# EAGLE library part 677006144621 (library InputOutputIO (rev18a))
WR-COM Vertical Receptacle IEEE 1394 / Fire Wire, 6 pins=>Code : Con_I-O_COM_IEEE_677006144621 <http://katalog.we-online.de/media/images/eican/Con_I-O_COM_IEEE_677006144621_pf2.jpg> Details see: http://katalog.we-online.de/en/em/IEEE_1394_VERTICAL_RECEPTACLE/677006144621 Created 2014-07-09, Karrer Zheng 2014 (C) Würth Elektronik
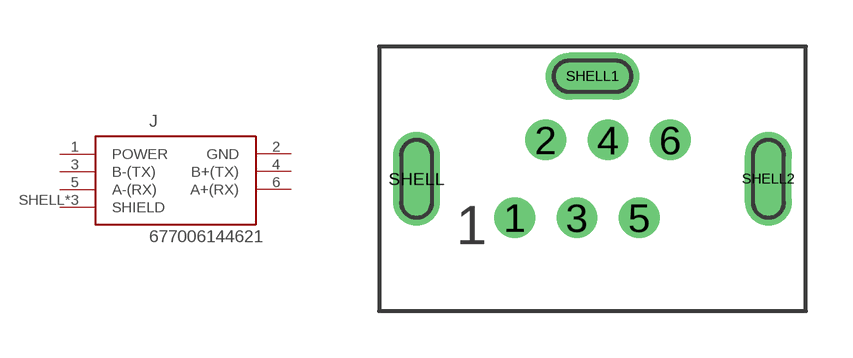
[diagram p73: symbol with the pads of 677006144621; footprint 677006144621]

Designator prefix J

## 677006144621  [677006144621]
1  POWER  pas
2  GND  pas
3  B-(TX)  pas
4  B+(TX)  pas
5  A-(RX)  pas
6  A+(RX)  pas
SHELL  SHIELD  pas
SHELL1  SHIELD  pas
SHELL2  SHIELD  pas

## Footprint 677006144621 (pad centres in mm)
WR-COM Vertical Receptacle IEEE 1394 / Fire Wire, 6 pins
drill 0.8: 1 -2.5,-1.25; 2 -1.5,1.25; 3 -0.5,-1.25; 4 0.5,1.25; 5 1.5,-1.25; 6 2.5,1.25
drill 1 long: SHELL -5.65,0; SHELL1 0,3.3; SHELL2 5.65,0